# Altium footprint library IC_FTDI_FT232RQ-REEL.PcbLib: 1 footprints
Each footprint in its own frame and in the unit in brackets; x right, y up, seen from the top. Pads: shape width x height; smd on the part's side, far side on the other; paste and mask are expansions set on the pad; w line width, h text height; cw(c..) or ccw(c..) is an arc to the next point about the centre after c.
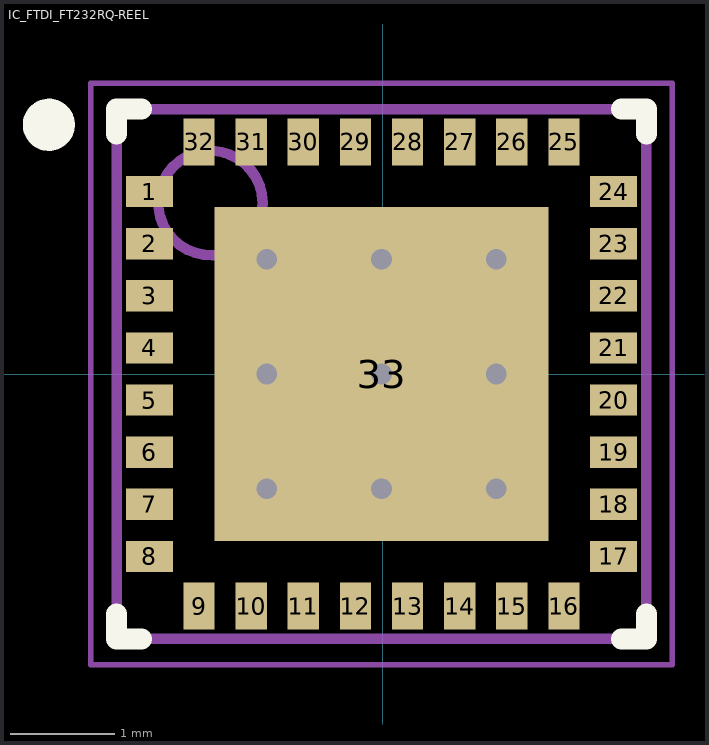
[diagram p0: the footprint, top view; thin cyan lines are the x and y axes]

## IC_FTDI_FT232RQ-REEL [mm]
height 1
pads (33):
  rect 0.45x0.3 smd: 1(-2.237,1.75) 2(-2.237,1.25) 3(-2.237,0.75) 4(-2.237,0.25) 5(-2.237,-0.25) 6(-2.237,-0.75) 7(-2.237,-1.25) 8(-2.237,-1.75) 17(2.213,-1.75) 18(2.213,-1.25) 19(2.213,-0.75) 20(2.213,-0.25) 21(2.213,0.25) 22(2.213,0.75) 23(2.213,1.25) 24(2.213,1.75)
  rect 0.3x0.45 smd: 9(-1.762,-2.225) 10(-1.262,-2.225) 11(-0.762,-2.225) 12(-0.262,-2.225) 13(0.238,-2.225) 14(0.738,-2.225) 15(1.238,-2.225) 16(1.738,-2.225) 25(1.738,2.225) 26(1.238,2.225) 27(0.738,2.225) 28(0.238,2.225) 29(-0.262,2.225) 30(-0.762,2.225) 31(-1.262,2.225) 32(-1.762,2.225)
  rect 3.2x3.2 smd paste-10: 33(-0.012,0)
via -1.112,1.1 diameter 0.5 hole 0.2
via -0.012,1.1 diameter 0.5 hole 0.2
via 1.088,1.1 diameter 0.5 hole 0.2
via -1.112,0 diameter 0.5 hole 0.2
via -0.012,0 diameter 0.5 hole 0.2
via 1.088,0 diameter 0.5 hole 0.2
via -1.112,-1.1 diameter 0.5 hole 0.2
via -0.012,-1.1 diameter 0.5 hole 0.2
via 1.088,-1.1 diameter 0.5 hole 0.2
Top Overlay:
  circle w0.25: c-3.202,2.39 r0.125
  lines w0.2: -2.552,-2.3 -2.552,-2.54 -2.312,-2.54 ; -2.552,2.3 -2.552,2.54 -2.312,2.54 ; 2.288,-2.54 2.528,-2.54 2.528,-2.3 ; 2.288,2.54 2.528,2.54 2.528,2.3
Top Paste:
  rectangle: 0.697,0.603 1.297,0.903
  rectangle: 0.697,0.102 1.297,0.402
  rectangle: 0.697,-0.398 1.297,-0.098
  rectangle: 0.697,-0.898 1.297,-0.598
  rectangle: 0.697,-1.398 1.297,-1.098
  rectangle: -0.304,0.603 0.296,0.903
  rectangle: -0.304,0.102 0.296,0.402
  rectangle: -0.304,-0.398 0.296,-0.098
  rectangle: -0.304,-0.898 0.296,-0.598
  rectangle: -0.304,-1.398 0.296,-1.098
  rectangle: 0.697,1.102 1.297,1.402
  rectangle: -0.304,1.102 0.296,1.402
  rectangle: -1.305,-1.398 -0.705,-1.098
  rectangle: -1.305,-0.898 -0.705,-0.598
  rectangle: -1.305,-0.398 -0.705,-0.098
  rectangle: -1.305,0.102 -0.705,0.402
  rectangle: -1.306,0.603 -0.706,0.903
  rectangle: -1.306,1.102 -0.706,1.402
Mechanical 13:
  circle w0.1: c-1.652,1.64 r0.5
  lines w0.1: -2.552,-2.54 -2.552,2.54 2.528,2.54 2.528,-2.54 -2.552,-2.54
Mechanical 15:
  lines w0.05: -2.799,-2.788 -2.799,2.788 2.776,2.788 2.776,-2.788 -2.799,-2.788
  lines w0.1: -0.512,0 0.488,0 ; -0.012,-0.5 -0.012,0.5
3D body "PQFN50P500X500X75_HS-33N.step": height 0.75, standoff 0, extent -2.552,-2.54 2.528,2.54